# Altium integrated library Maxim Digital Potentiometers.IntLib: 1045 symbols (part 7 of 42)
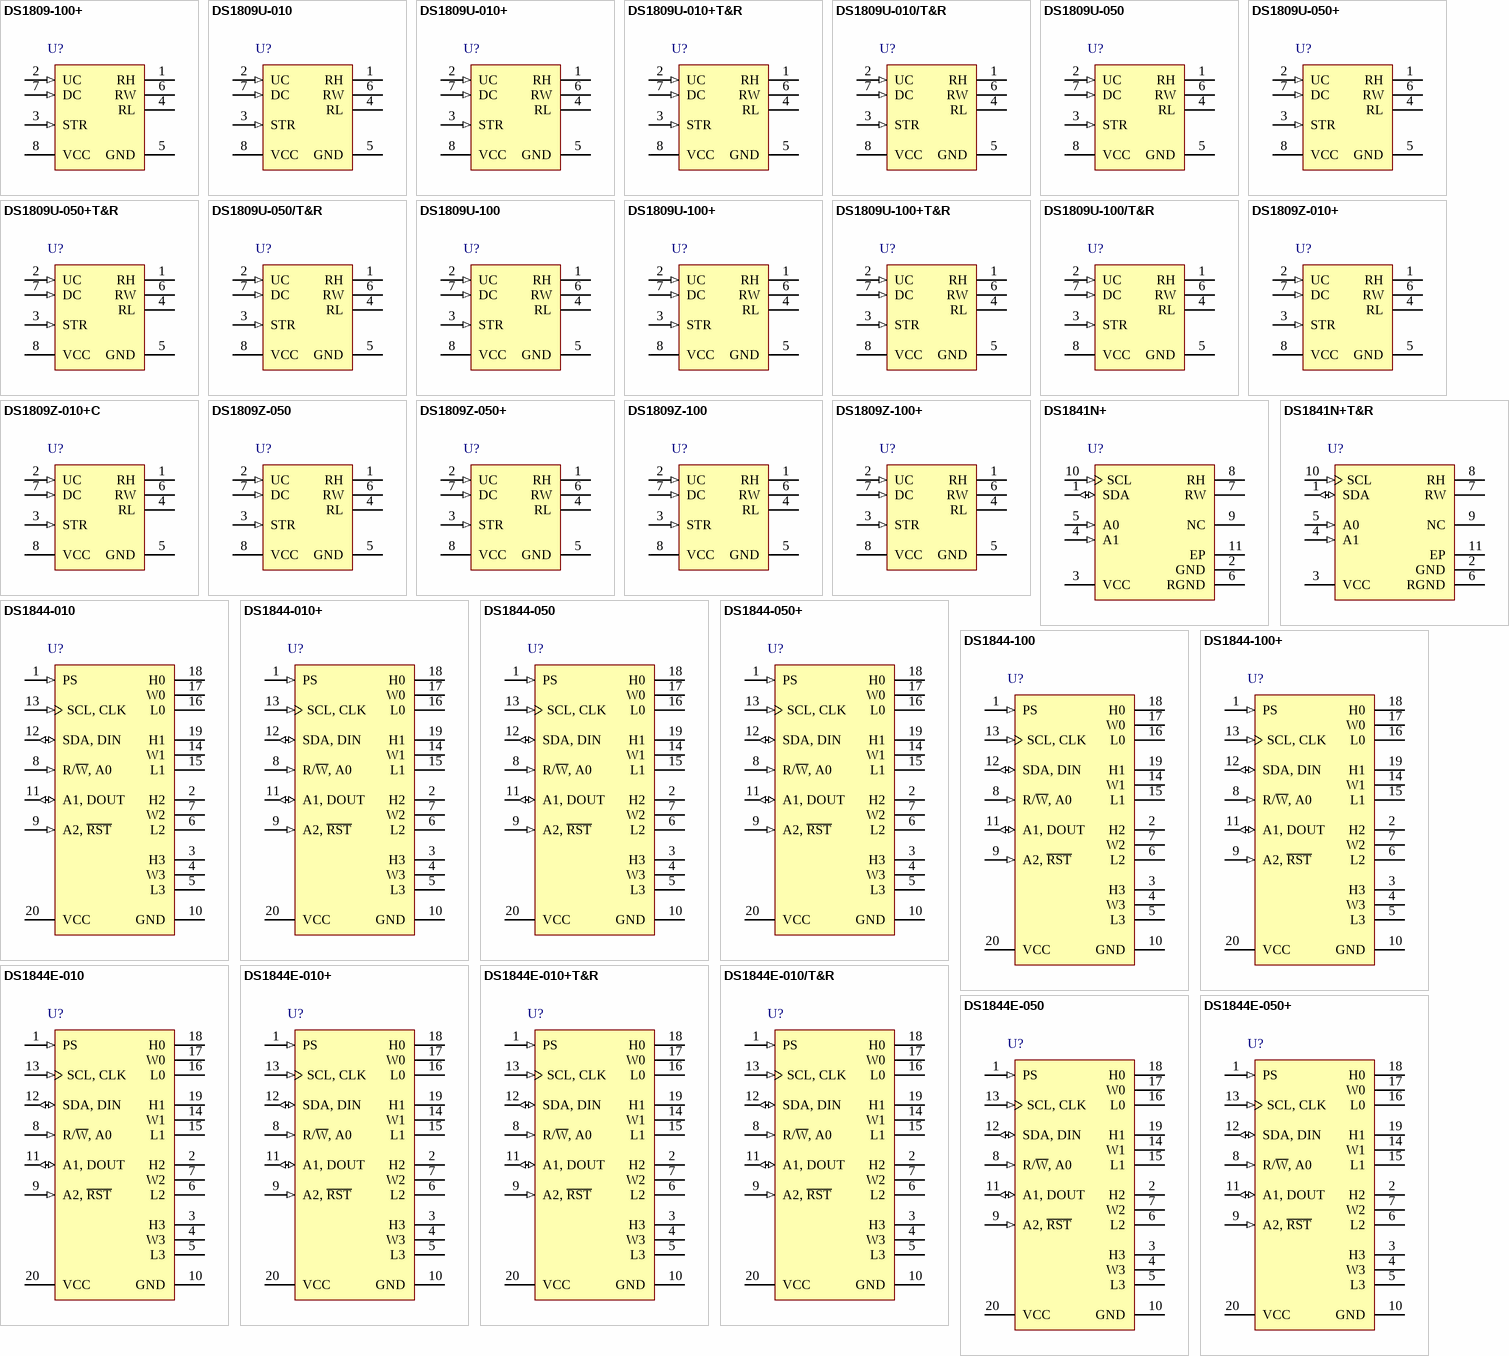
[diagram p35: symbols DS1809-100+ to DS1844E-050+]

## DS1809U-100
designator U?
Dallastat with Contact-Closure Control Interface, Non-Volatile, Linear Taper, 64 Steps, -40 to 85 degC, 8-pin uMAX (U8-1); PartNumber: DS1809U-100; DatasheetVersion: Rev. 1; PackageVersion: Rev. L, 08/2009; PackageReference: U8-1; PackageDescription: 8-Pin Micro-MAX, Thin Shrink Small-Outline (U8-1), Body 3 x 3 mm, Pitch 0.65mm; Supplier 1: Digi-Key; Supplier Part Number 1: DS1809U-100-ND; Supplier 2: Mouser; Supplier Part Number 2: N/A; Control Interface: Contact-Closure; Features: EEPROM Wiper Memory; Mounting Technology: Surface Mount; Code_JEDEC: MO-187; ComponentLink1Description: Manufacturer URL; ComponentLink1URL: http://www.maximintegrated.com/; ComponentLink2Description: Datasheet; ComponentLink2URL: http://datasheets.maximintegrated.com/en/ds/DS1809.pdf; ComponentLink3Description: Package Specification; ComponentLink3URL: http://pdfserv.maximintegrated.com/package_dwgs/21-0036.PDF
footprint MAXM-U8-1_N (SOP, 8-Leads, Body 3x3mm, Pitch 0.65mm, IPC Medium Density)
footprint MAXM-U8-1_L (SOP, 8-Leads, Body 3x3mm, Pitch 0.65mm, IPC High Density)
footprint MAXM-U8-1_M (SOP, 8-Leads, Body 3x3mm, Pitch 0.65mm, IPC Low Density)
pins: 1 RH "High End of Resistor", 2 UC (in) "Up Control Input", 3 STR (in) "Storage Enable Input", 4 RL "Low End of Resistor", 5 GND (power) "Ground", 6 RW "Wiper Terminal", 7 DC (in) "Down Control Input", 8 VCC (power) "Supply Voltage"

## DS1809U-100+
designator U?
Dallastat with Contact-Closure Control Interface, Non-Volatile, Linear Taper, 64 Steps, -40 to 85 degC, 8-pin uMAX (U8+1), Pb-Free; PartNumber: DS1809U-100+; DatasheetVersion: Rev. 1; PackageVersion: Rev. L, 08/2009; PackageReference: U8+1; PackageDescription: 8-Pin Micro-MAX, Thin Shrink Small-Outline (U8+1), Body 3 x 3 mm, Pitch 0.65 mm; Supplier 1: Digi-Key; Supplier Part Number 1: DS1809U-100+-ND; Supplier 2: Mouser; Supplier Part Number 2: 700-DS1809U-100; Control Interface: Contact-Closure; Features: EEPROM Wiper Memory; Mounting Technology: Surface Mount; Code_JEDEC: MO-187; ComponentLink1Description: Manufacturer URL; ComponentLink1URL: http://www.maximintegrated.com/; ComponentLink2Description: Datasheet; ComponentLink2URL: http://datasheets.maximintegrated.com/en/ds/DS1809.pdf; ComponentLink3Description: Package Specification; ComponentLink3URL: http://pdfserv.maximintegrated.com/package_dwgs/21-0036.PDF
footprint MAXM-U8+1_N (SOP, 8-Leads, Body 3x3mm, Pitch 0.65mm, IPC Medium Density)
footprint MAXM-U8+1_L (SOP, 8-Leads, Body 3x3mm, Pitch 0.65mm, IPC High Density)
footprint MAXM-U8+1_M (SOP, 8-Leads, Body 3x3mm, Pitch 0.65mm, IPC Low Density)
pins: 1 RH "High End of Resistor", 2 UC (in) "Up Control Input", 3 STR (in) "Storage Enable Input", 4 RL "Low End of Resistor", 5 GND (power) "Ground", 6 RW "Wiper Terminal", 7 DC (in) "Down Control Input", 8 VCC (power) "Supply Voltage"

## DS1809U-100+T&R
designator U?
Dallastat with Contact-Closure Control Interface, Non-Volatile, Linear Taper, 64 Steps, -40 to 85 degC, 8-pin uMAX (U8+1), Pb-Free, Tape and Reel; PartNumber: DS1809U-100+T&R; DatasheetVersion: Rev. 1; PackageVersion: Rev. L, 08/2009; PackageReference: U8+1; PackageDescription: 8-Pin Micro-MAX, Thin Shrink Small-Outline (U8+1), Body 3 x 3 mm, Pitch 0.65 mm; Supplier 1: Digi-Key; Supplier Part Number 1: DS1809U-100+T&R-ND; Supplier 2: Mouser; Supplier Part Number 2: 700-DS1809U-100T&R; Control Interface: Contact-Closure; Features: EEPROM Wiper Memory; Mounting Technology: Surface Mount; Code_JEDEC: MO-187; ComponentLink1Description: Manufacturer URL; ComponentLink1URL: http://www.maximintegrated.com/; ComponentLink2Description: Datasheet; ComponentLink2URL: http://datasheets.maximintegrated.com/en/ds/DS1809.pdf; ComponentLink3Description: Package Specification; ComponentLink3URL: http://pdfserv.maximintegrated.com/package_dwgs/21-0036.PDF
footprint MAXM-U8+1_N (SOP, 8-Leads, Body 3x3mm, Pitch 0.65mm, IPC Medium Density)
footprint MAXM-U8+1_L (SOP, 8-Leads, Body 3x3mm, Pitch 0.65mm, IPC High Density)
footprint MAXM-U8+1_M (SOP, 8-Leads, Body 3x3mm, Pitch 0.65mm, IPC Low Density)
pins: 1 RH "High End of Resistor", 2 UC (in) "Up Control Input", 3 STR (in) "Storage Enable Input", 4 RL "Low End of Resistor", 5 GND (power) "Ground", 6 RW "Wiper Terminal", 7 DC (in) "Down Control Input", 8 VCC (power) "Supply Voltage"

## DS1809U-100/T&R
designator U?
Dallastat with Contact-Closure Control Interface, Non-Volatile, Linear Taper, 64 Steps, -40 to 85 degC, 8-pin uMAX (U8-1), Tape and Reel; PartNumber: DS1809U-100/T&R; DatasheetVersion: Rev. 1; PackageVersion: Rev. L, 08/2009; PackageReference: U8-1; PackageDescription: 8-Pin Micro-MAX, Thin Shrink Small-Outline (U8-1), Body 3 x 3 mm, Pitch 0.65mm; Supplier 1: Digi-Key; Supplier Part Number 1: DS1809U-100/T&R-ND; Supplier 2: Mouser; Supplier Part Number 2: N/A; Control Interface: Contact-Closure; Features: EEPROM Wiper Memory; Mounting Technology: Surface Mount; Code_JEDEC: MO-187; ComponentLink1Description: Manufacturer URL; ComponentLink1URL: http://www.maximintegrated.com/; ComponentLink2Description: Datasheet; ComponentLink2URL: http://datasheets.maximintegrated.com/en/ds/DS1809.pdf; ComponentLink3Description: Package Specification; ComponentLink3URL: http://pdfserv.maximintegrated.com/package_dwgs/21-0036.PDF
footprint MAXM-U8-1_N (SOP, 8-Leads, Body 3x3mm, Pitch 0.65mm, IPC Medium Density)
footprint MAXM-U8-1_L (SOP, 8-Leads, Body 3x3mm, Pitch 0.65mm, IPC High Density)
footprint MAXM-U8-1_M (SOP, 8-Leads, Body 3x3mm, Pitch 0.65mm, IPC Low Density)
pins: 1 RH "High End of Resistor", 2 UC (in) "Up Control Input", 3 STR (in) "Storage Enable Input", 4 RL "Low End of Resistor", 5 GND (power) "Ground", 6 RW "Wiper Terminal", 7 DC (in) "Down Control Input", 8 VCC (power) "Supply Voltage"

## DS1809Z-010+
designator U?
Dallastat with Contact-Closure Control Interface, Non-Volatile, Linear Taper, 64 Steps, -40 to 85 degC, 8-pin SOIC (S8+5), Pb-Free; PartNumber: DS1809Z-010+; DatasheetVersion: Rev. 1; PackageVersion: Rev. D, 10/2012; PackageReference: S8+5; PackageDescription: 8-Pin Small-Outline IC, Narrow (0.15in) (S8+5), Body 4.90 x 3.90 mm, Pitch 1.27 mm; Supplier 1: Digi-Key; Supplier Part Number 1: DS1809Z-010+-ND; Supplier 2: Mouser; Supplier Part Number 2: 700-DS1809Z-010; Control Interface: Contact-Closure; Features: EEPROM Wiper Memory; Mounting Technology: Surface Mount; Code_JEDEC: MS012; ComponentLink1Description: Manufacturer URL; ComponentLink1URL: http://www.maximintegrated.com/; ComponentLink2Description: Datasheet; ComponentLink2URL: http://datasheets.maximintegrated.com/en/ds/DS1809.pdf; ComponentLink3Description: Package Specification; ComponentLink3URL: http://pdfserv.maximintegrated.com/package_dwgs/21-0041.PDF
footprint MAXM-S8+5_N (SOIC, 8-Leads, Body 4.90x3.90mm, Pitch 1.27mm, IPC Medium Density)
footprint MAXM-S8+5_L (SOIC, 8-Leads, Body 4.90x3.90mm, Pitch 1.27mm, IPC High Density)
footprint MAXM-S8+5_M (SOIC, 8-Leads, Body 4.90x3.90mm, Pitch 1.27mm, IPC Low Density)
pins: 1 RH "High End of Resistor", 2 UC (in) "Up Control Input", 3 STR (in) "Storage Enable Input", 4 RL "Low End of Resistor", 5 GND (power) "Ground", 6 RW "Wiper Terminal", 7 DC (in) "Down Control Input", 8 VCC (power) "Supply Voltage"

## DS1809Z-010+C
designator U?
Dallastat with Contact-Closure Control Interface, Non-Volatile, Linear Taper, 64 Steps, -40 to 85 degC, 8-pin SOIC (S8+5), Pb-Free; PartNumber: DS1809Z-010+C; DatasheetVersion: Rev. 1; PackageVersion: Rev. D, 10/2012; PackageReference: S8+5; PackageDescription: 8-Pin Small-Outline IC, Narrow (0.15in) (S8+5), Body 4.90 x 3.90 mm, Pitch 1.27 mm; Supplier 1: Digi-Key; Supplier Part Number 1: DS1809Z-010+C-ND; Supplier 2: Mouser; Supplier Part Number 2: 700-DS1809Z-010C; Control Interface: Contact-Closure; Features: EEPROM Wiper Memory; Mounting Technology: Surface Mount; Code_JEDEC: MS012; ComponentLink1Description: Manufacturer URL; ComponentLink1URL: http://www.maximintegrated.com/; ComponentLink2Description: Datasheet; ComponentLink2URL: http://datasheets.maximintegrated.com/en/ds/DS1809.pdf; ComponentLink3Description: Package Specification; ComponentLink3URL: http://pdfserv.maximintegrated.com/package_dwgs/21-0041.PDF
footprint MAXM-S8+5_N (SOIC, 8-Leads, Body 4.90x3.90mm, Pitch 1.27mm, IPC Medium Density)
footprint MAXM-S8+5_L (SOIC, 8-Leads, Body 4.90x3.90mm, Pitch 1.27mm, IPC High Density)
footprint MAXM-S8+5_M (SOIC, 8-Leads, Body 4.90x3.90mm, Pitch 1.27mm, IPC Low Density)
pins: 1 RH "High End of Resistor", 2 UC (in) "Up Control Input", 3 STR (in) "Storage Enable Input", 4 RL "Low End of Resistor", 5 GND (power) "Ground", 6 RW "Wiper Terminal", 7 DC (in) "Down Control Input", 8 VCC (power) "Supply Voltage"

## DS1809Z-050
designator U?
Dallastat with Contact-Closure Control Interface, Non-Volatile, Linear Taper, 64 Steps, -40 to 85 degC, 8-pin SOIC (S8-2); PartNumber: DS1809Z-050; DatasheetVersion: Rev. 1; PackageVersion: Rev. D, 10/2012; PackageReference: S8-2; PackageDescription: 8-Pin Small-Outline IC, Narrow (0.15in) (S8-2), Body 4.90 x 3.90 mm, Pitch 1.27 mm; Supplier 1: Digi-Key; Supplier Part Number 1: DS1809Z-050-ND; Supplier 2: Mouser; Supplier Part Number 2: N/A; Control Interface: Contact-Closure; Features: EEPROM Wiper Memory; Mounting Technology: Surface Mount; Code_JEDEC: MS012; ComponentLink1Description: Manufacturer URL; ComponentLink1URL: http://www.maximintegrated.com/; ComponentLink2Description: Datasheet; ComponentLink2URL: http://datasheets.maximintegrated.com/en/ds/DS1809.pdf; ComponentLink3Description: Package Specification; ComponentLink3URL: http://pdfserv.maximintegrated.com/package_dwgs/21-0041.PDF
footprint MAXM-S8-2_N (SOIC, 8-Leads, Body 4.90x3.90mm, Pitch 1.27mm, IPC Medium Density)
footprint MAXM-S8-2_L (SOIC, 8-Leads, Body 4.90x3.90mm, Pitch 1.27mm, IPC High Density)
footprint MAXM-S8-2_M (SOIC, 8-Leads, Body 4.90x3.90mm, Pitch 1.27mm, IPC Low Density)
pins: 1 RH "High End of Resistor", 2 UC (in) "Up Control Input", 3 STR (in) "Storage Enable Input", 4 RL "Low End of Resistor", 5 GND (power) "Ground", 6 RW "Wiper Terminal", 7 DC (in) "Down Control Input", 8 VCC (power) "Supply Voltage"

## DS1809Z-050+
designator U?
Dallastat with Contact-Closure Control Interface, Non-Volatile, Linear Taper, 64 Steps, -40 to 85 degC, 8-pin SOIC (S8+5), Pb-Free; PartNumber: DS1809Z-050+; DatasheetVersion: Rev. 1; PackageVersion: Rev. D, 10/2012; PackageReference: S8+5; PackageDescription: 8-Pin Small-Outline IC, Narrow (0.15in) (S8+5), Body 4.90 x 3.90 mm, Pitch 1.27 mm; Supplier 1: Digi-Key; Supplier Part Number 1: DS1809Z-050+-ND; Supplier 2: Mouser; Supplier Part Number 2: 700-DS1809Z-050; Control Interface: Contact-Closure; Features: EEPROM Wiper Memory; Mounting Technology: Surface Mount; Code_JEDEC: MS012; ComponentLink1Description: Manufacturer URL; ComponentLink1URL: http://www.maximintegrated.com/; ComponentLink2Description: Datasheet; ComponentLink2URL: http://datasheets.maximintegrated.com/en/ds/DS1809.pdf; ComponentLink3Description: Package Specification; ComponentLink3URL: http://pdfserv.maximintegrated.com/package_dwgs/21-0041.PDF
footprint MAXM-S8+5_N (SOIC, 8-Leads, Body 4.90x3.90mm, Pitch 1.27mm, IPC Medium Density)
footprint MAXM-S8+5_L (SOIC, 8-Leads, Body 4.90x3.90mm, Pitch 1.27mm, IPC High Density)
footprint MAXM-S8+5_M (SOIC, 8-Leads, Body 4.90x3.90mm, Pitch 1.27mm, IPC Low Density)
pins: 1 RH "High End of Resistor", 2 UC (in) "Up Control Input", 3 STR (in) "Storage Enable Input", 4 RL "Low End of Resistor", 5 GND (power) "Ground", 6 RW "Wiper Terminal", 7 DC (in) "Down Control Input", 8 VCC (power) "Supply Voltage"

## DS1809Z-100
designator U?
Dallastat with Contact-Closure Control Interface, Non-Volatile, Linear Taper, 64 Steps, -40 to 85 degC, 8-pin SOIC (S8-2); PartNumber: DS1809Z-100; DatasheetVersion: Rev. 1; PackageVersion: Rev. D, 10/2012; PackageReference: S8-2; PackageDescription: 8-Pin Small-Outline IC, Narrow (0.15in) (S8-2), Body 4.90 x 3.90 mm, Pitch 1.27 mm; Supplier 1: Digi-Key; Supplier Part Number 1: DS1809Z-100-ND; Supplier 2: Mouser; Supplier Part Number 2: N/A; Control Interface: Contact-Closure; Features: EEPROM Wiper Memory; Mounting Technology: Surface Mount; Code_JEDEC: MS012; ComponentLink1Description: Manufacturer URL; ComponentLink1URL: http://www.maximintegrated.com/; ComponentLink2Description: Datasheet; ComponentLink2URL: http://datasheets.maximintegrated.com/en/ds/DS1809.pdf; ComponentLink3Description: Package Specification; ComponentLink3URL: http://pdfserv.maximintegrated.com/package_dwgs/21-0041.PDF
footprint MAXM-S8-2_N (SOIC, 8-Leads, Body 4.90x3.90mm, Pitch 1.27mm, IPC Medium Density)
footprint MAXM-S8-2_L (SOIC, 8-Leads, Body 4.90x3.90mm, Pitch 1.27mm, IPC High Density)
footprint MAXM-S8-2_M (SOIC, 8-Leads, Body 4.90x3.90mm, Pitch 1.27mm, IPC Low Density)
pins: 1 RH "High End of Resistor", 2 UC (in) "Up Control Input", 3 STR (in) "Storage Enable Input", 4 RL "Low End of Resistor", 5 GND (power) "Ground", 6 RW "Wiper Terminal", 7 DC (in) "Down Control Input", 8 VCC (power) "Supply Voltage"

## DS1809Z-100+
designator U?
Dallastat with Contact-Closure Control Interface, Non-Volatile, Linear Taper, 64 Steps, -40 to 85 degC, 8-pin SOIC (S8+5), Pb-Free; PartNumber: DS1809Z-100+; DatasheetVersion: Rev. 1; PackageVersion: Rev. D, 10/2012; PackageReference: S8+5; PackageDescription: 8-Pin Small-Outline IC, Narrow (0.15in) (S8+5), Body 4.90 x 3.90 mm, Pitch 1.27 mm; Supplier 1: Digi-Key; Supplier Part Number 1: DS1809Z-100+-ND; Supplier 2: Mouser; Supplier Part Number 2: 700-DS1809Z-100; Control Interface: Contact-Closure; Features: EEPROM Wiper Memory; Mounting Technology: Surface Mount; Code_JEDEC: MS012; ComponentLink1Description: Manufacturer URL; ComponentLink1URL: http://www.maximintegrated.com/; ComponentLink2Description: Datasheet; ComponentLink2URL: http://datasheets.maximintegrated.com/en/ds/DS1809.pdf; ComponentLink3Description: Package Specification; ComponentLink3URL: http://pdfserv.maximintegrated.com/package_dwgs/21-0041.PDF
footprint MAXM-S8+5_N (SOIC, 8-Leads, Body 4.90x3.90mm, Pitch 1.27mm, IPC Medium Density)
footprint MAXM-S8+5_L (SOIC, 8-Leads, Body 4.90x3.90mm, Pitch 1.27mm, IPC High Density)
footprint MAXM-S8+5_M (SOIC, 8-Leads, Body 4.90x3.90mm, Pitch 1.27mm, IPC Low Density)
pins: 1 RH "High End of Resistor", 2 UC (in) "Up Control Input", 3 STR (in) "Storage Enable Input", 4 RL "Low End of Resistor", 5 GND (power) "Ground", 6 RW "Wiper Terminal", 7 DC (in) "Down Control Input", 8 VCC (power) "Supply Voltage"

## DS1841N+
designator U?
Temperature-Controlled, Logarithmic Resistor with I2C Control Interface, Non-Volatile, Log Taper, 128 Steps, -40 to 85 degC, 10-pin TDFN-EP (T1033+1), Pb-Free; PartNumber: DS1841N+; DatasheetVersion: Rev. 2; PackageVersion: Rev. J, 08/2009; PackageReference: T1033+1; PackageDescription: 10-Pin Plastic Very Very Thin Dual Flatpack No Leads, Exposed Pad (T1033+1), Body 3 x 3 mm, Pitch 0.5 mm; Supplier 1: Digi-Key; Supplier Part Number 1: DS1841N+-ND; Supplier 2: Farnell; Supplier Part Number 2: 1775343; Supplier 3: Newark; Supplier Part Number 3: 69M1844; Supplier 4: Mouser; Supplier Part Number 4: 700-DS1841N; Applications: Audio Control, Fiber Communications ,Fibre Optic Modules; Control Interface: I2C; Features: 72 Byte Lookup Table, On-Chip Temperature Sensor and ADC; Mounting Technology: Surface Mount; Code_JEDEC: MO229; ComponentLink1Description: Manufacturer URL; ComponentLink1URL: http://www.maximintegrated.com/; ComponentLink2Description: Datasheet; ComponentLink2URL: http://datasheets.maximintegrated.com/en/ds/DS1841.pdf; ComponentLink3Description: Package Specification; ComponentLink3URL: http://pdfserv.maximintegrated.com/package_dwgs/21-0137.PDF
footprint MAXM-T1033+1_V (SON, 10-Leads, Body 3x3mm, Pitch 0.5mm, Thermal Pad 2.35x1.58mm)
pins: 1 SDA (io) "I2C Serial Data. Input/output for I2C data.", 2 GND (power) "Ground", 3 VCC (power) "Power Supply", 4 A1 (in) "Address Select Inputs. Determines I2C slave address. Device address is 01010A1A0X (see the Slave Address Byte and Address Pins sections for more details).", 5 A0 (in) "Address Select Inputs. Determines I2C slave address. Device address is 01010A1A0X (see the Slave Address Byte and Address Pins sections for more details).", 6 RGND (power) "Low Terminal of Resistor. Must be connected to GND.", 7 RW "Wiper Terminal", 8 RH "Terminal with Fixed Resistor Added in Series with Digital Resistor", 9 NC "No Connection", 10 SCL (in) "I2C Serial Clock. Input for I2C clock.", 11 EP (power) "Exposed Paddle. Must be connected to ground."

## DS1841N+T&R
designator U?
Temperature-Controlled, NV, Logarithmic Resistor with I2C Control Interface, Non-Volatile, Log Taper, 128 Steps, -40 to 85 degC, 10-pin TDFN-EP (T1033+1), Pb-Free, Tape and Reel; PartNumber: DS1841N+T&R; DatasheetVersion: Rev. 2; PackageVersion: Rev. J, 08/2009; PackageReference: T1033+1; PackageDescription: 10-Pin Plastic Very Very Thin Dual Flatpack No Leads, Exposed Pad (T1033+1), Body 3 x 3 mm, Pitch 0.5 mm; Supplier 1: Digi-Key; Supplier Part Number 1: DS1841N+T&R-ND; Supplier 2: Mouser; Supplier Part Number 2: 700-DS1841NT&R; Applications: Audio Control, Fiber Communications ,Fibre Optic Modules; Control Interface: I2C; Features: 72 Byte Lookup Table, On-Chip Temperature Sensor and ADC; Mounting Technology: Surface Mount; Code_JEDEC: MO229; ComponentLink1Description: Manufacturer URL; ComponentLink1URL: http://www.maximintegrated.com/; ComponentLink2Description: Datasheet; ComponentLink2URL: http://datasheets.maximintegrated.com/en/ds/DS1841.pdf; ComponentLink3Description: Package Specification; ComponentLink3URL: http://pdfserv.maximintegrated.com/package_dwgs/21-0137.PDF
footprint MAXM-T1033+1_V (SON, 10-Leads, Body 3x3mm, Pitch 0.5mm, Thermal Pad 2.35x1.58mm)
pins: 1 SDA (io) "I2C Serial Data. Input/output for I2C data.", 2 GND (power) "Ground", 3 VCC (power) "Power Supply", 4 A1 (in) "Address Select Inputs. Determines I2C slave address. Device address is 01010A1A0X (see the Slave Address Byte and Address Pins sections for more details).", 5 A0 (in) "Address Select Inputs. Determines I2C slave address. Device address is 01010A1A0X (see the Slave Address Byte and Address Pins sections for more details).", 6 RGND (power) "Low Terminal of Resistor. Must be connected to GND.", 7 RW "Wiper Terminal", 8 RH "Terminal with Fixed Resistor Added in Series with Digital Resistor", 9 NC "No Connection", 10 SCL (in) "I2C Serial Clock. Input for I2C clock.", 11 EP (power) "Exposed Paddle. Must be connected to ground."

## DS1844-010
designator U?
Quad Digital Potentiometer with 2-Wire or 5-Wire Serial Control Interface, Volatile, Linear Taper, 64 Steps, -40 to 85 degC, 20-pin PDIP (P20-3); PartNumber: DS1844-010; DatasheetVersion: Rev. 2; PackageVersion: Rev. E, 04/2011; PackageReference: P20-3; PackageDescription: 20-Pin Plastic Dual-In-Line, Narrow (0.3in) (P20-3), Body 26.16 x 6.985 mm, Pitch 2.54 mm; Supplier 1: Digi-Key; Supplier Part Number 1: DS1844-010-ND; Supplier 2: Mouser; Supplier Part Number 2: N/A; Control Interface: 2-Wire or 5-Wire Serial; Mounting Technology: Through Hole; Code_JEDEC: MS001-XX; ComponentLink1Description: Manufacturer URL; ComponentLink1URL: http://www.maximintegrated.com/; ComponentLink2Description: Datasheet; ComponentLink2URL: http://datasheets.maximintegrated.com/en/ds/DS1844.pdf; ComponentLink3Description: Package Specification; ComponentLink3URL: http://pdfserv.maximintegrated.com/package_dwgs/21-0043.PDF
footprint MAXM-P20-3 (DIP, 20-Leads, Body 26.16x6.985mm, Pitch 2.54mm)
pins: 1 PS (in) "Port Select", 2 H2 "High-end Terminal of Pot", 3 H3 "High-end Terminal of Pot", 4 W3 "Wiper Terminal of Pot", 5 L3 "Low-end Terminal of Pot", 6 L2 "Low-end Terminal of Pot", 7 W2 "Wiper Terminal of Pot", 8 R/~{W}, A0 (in), 9 A2, ~{RST} (in), 10 GND (power) "Ground", 11 A1, DOUT (io), 12 SDA, DIN (io), 13 SCL, CLK (in), 14 W1 "Wiper Terminal of Pot", 15 L1 "Low-end Terminal of Pot", 16 L0 "Low-end Terminal of Pot", 17 W0 "Wiper Terminal of Pot", 18 H0 "High-end Terminal of Pot", 19 H1 "High-end Terminal of Pot", 20 VCC (power) "2.7V to 5.5V"

## DS1844-010+
designator U?
Quad Digital Potentiometer with 2-Wire or 5-Wire Serial Control Interface, Volatile, Linear Taper, 64 Steps, -40 to 85 degC, 20-pin PDIP (P20+3), Pb-Free; PartNumber: DS1844-010+; DatasheetVersion: Rev. 2; PackageVersion: Rev. E, 04/2011; PackageReference: P20+3; PackageDescription: 20-Pin Plastic Dual-In-Line, Narrow (0.3in) (P20+3), Body 26.16 x 6.985 mm, Pitch 2.54 mm; Supplier 1: Digi-Key; Supplier Part Number 1: DS1844-010+-ND; Supplier 2: Farnell; Supplier Part Number 2: 1306320; Supplier 3: Mouser; Supplier Part Number 3: 700-DS1844-010; Control Interface: 2-Wire or 5-Wire Serial; Mounting Technology: Through Hole; Code_JEDEC: MS001-XX; ComponentLink1Description: Manufacturer URL; ComponentLink1URL: http://www.maximintegrated.com/; ComponentLink2Description: Datasheet; ComponentLink2URL: http://datasheets.maximintegrated.com/en/ds/DS1844.pdf; ComponentLink3Description: Package Specification; ComponentLink3URL: http://pdfserv.maximintegrated.com/package_dwgs/21-0043.PDF
footprint MAXM-P20+3 (DIP, 20-Leads, Body 26.16x6.985mm, Pitch 2.54mm)
pins: 1 PS (in) "Port Select", 2 H2 "High-end Terminal of Pot", 3 H3 "High-end Terminal of Pot", 4 W3 "Wiper Terminal of Pot", 5 L3 "Low-end Terminal of Pot", 6 L2 "Low-end Terminal of Pot", 7 W2 "Wiper Terminal of Pot", 8 R/~{W}, A0 (in), 9 A2, ~{RST} (in), 10 GND (power) "Ground", 11 A1, DOUT (io), 12 SDA, DIN (io), 13 SCL, CLK (in), 14 W1 "Wiper Terminal of Pot", 15 L1 "Low-end Terminal of Pot", 16 L0 "Low-end Terminal of Pot", 17 W0 "Wiper Terminal of Pot", 18 H0 "High-end Terminal of Pot", 19 H1 "High-end Terminal of Pot", 20 VCC (power) "2.7V to 5.5V"

## DS1844-050
designator U?
Quad Digital Potentiometer with 2-Wire or 5-Wire Serial Control Interface, Volatile, Linear Taper, 64 Steps, -40 to 85 degC, 20-pin PDIP (P20-3); PartNumber: DS1844-050; DatasheetVersion: Rev. 2; PackageVersion: Rev. E, 04/2011; PackageReference: P20-3; PackageDescription: 20-Pin Plastic Dual-In-Line, Narrow (0.3in) (P20-3), Body 26.16 x 6.985 mm, Pitch 2.54 mm; Supplier 1: Digi-Key; Supplier Part Number 1: DS1844-050-ND; Supplier 2: Mouser; Supplier Part Number 2: N/A; Control Interface: 2-Wire or 5-Wire Serial; Mounting Technology: Through Hole; Code_JEDEC: MS001-XX; ComponentLink1Description: Manufacturer URL; ComponentLink1URL: http://www.maximintegrated.com/; ComponentLink2Description: Datasheet; ComponentLink2URL: http://datasheets.maximintegrated.com/en/ds/DS1844.pdf; ComponentLink3Description: Package Specification; ComponentLink3URL: http://pdfserv.maximintegrated.com/package_dwgs/21-0043.PDF
footprint MAXM-P20-3 (DIP, 20-Leads, Body 26.16x6.985mm, Pitch 2.54mm)
pins: 1 PS (in) "Port Select", 2 H2 "High-end Terminal of Pot", 3 H3 "High-end Terminal of Pot", 4 W3 "Wiper Terminal of Pot", 5 L3 "Low-end Terminal of Pot", 6 L2 "Low-end Terminal of Pot", 7 W2 "Wiper Terminal of Pot", 8 R/~{W}, A0 (in), 9 A2, ~{RST} (in), 10 GND (power) "Ground", 11 A1, DOUT (io), 12 SDA, DIN (io), 13 SCL, CLK (in), 14 W1 "Wiper Terminal of Pot", 15 L1 "Low-end Terminal of Pot", 16 L0 "Low-end Terminal of Pot", 17 W0 "Wiper Terminal of Pot", 18 H0 "High-end Terminal of Pot", 19 H1 "High-end Terminal of Pot", 20 VCC (power) "2.7V to 5.5V"

## DS1844-050+
designator U?
Quad Digital Potentiometer with 2-Wire or 5-Wire Serial Control Interface, Volatile, Linear Taper, 64 Steps, -40 to 85 degC, 20-pin PDIP (P20+3), Pb-Free; PartNumber: DS1844-050+; DatasheetVersion: Rev. 2; PackageVersion: Rev. E, 04/2011; PackageReference: P20+3; PackageDescription: 20-Pin Plastic Dual-In-Line, Narrow (0.3in) (P20+3), Body 26.16 x 6.985 mm, Pitch 2.54 mm; Supplier 1: Digi-Key; Supplier Part Number 1: DS1844-050+-ND; Supplier 2: Mouser; Supplier Part Number 2: 700-DS1844-050; Control Interface: 2-Wire or 5-Wire Serial; Mounting Technology: Through Hole; Code_JEDEC: MS001-XX; ComponentLink1Description: Manufacturer URL; ComponentLink1URL: http://www.maximintegrated.com/; ComponentLink2Description: Datasheet; ComponentLink2URL: http://datasheets.maximintegrated.com/en/ds/DS1844.pdf; ComponentLink3Description: Package Specification; ComponentLink3URL: http://pdfserv.maximintegrated.com/package_dwgs/21-0043.PDF
footprint MAXM-P20+3 (DIP, 20-Leads, Body 26.16x6.985mm, Pitch 2.54mm)
pins: 1 PS (in) "Port Select", 2 H2 "High-end Terminal of Pot", 3 H3 "High-end Terminal of Pot", 4 W3 "Wiper Terminal of Pot", 5 L3 "Low-end Terminal of Pot", 6 L2 "Low-end Terminal of Pot", 7 W2 "Wiper Terminal of Pot", 8 R/~{W}, A0 (in), 9 A2, ~{RST} (in), 10 GND (power) "Ground", 11 A1, DOUT (io), 12 SDA, DIN (io), 13 SCL, CLK (in), 14 W1 "Wiper Terminal of Pot", 15 L1 "Low-end Terminal of Pot", 16 L0 "Low-end Terminal of Pot", 17 W0 "Wiper Terminal of Pot", 18 H0 "High-end Terminal of Pot", 19 H1 "High-end Terminal of Pot", 20 VCC (power) "2.7V to 5.5V"

## DS1844-100
designator U?
Quad Digital Potentiometer with 2-Wire or 5-Wire Serial Control Interface, Volatile, Linear Taper, 64 Steps, -40 to 85 degC, 20-pin PDIP (P20-3); PartNumber: DS1844-100; DatasheetVersion: Rev. 2; PackageVersion: Rev. E, 04/2011; PackageReference: P20-3; PackageDescription: 20-Pin Plastic Dual-In-Line, Narrow (0.3in) (P20-3), Body 26.16 x 6.985 mm, Pitch 2.54 mm; Supplier 1: Digi-Key; Supplier Part Number 1: DS1844-100-ND; Supplier 2: Mouser; Supplier Part Number 2: N/A; Control Interface: 2-Wire or 5-Wire Serial; Mounting Technology: Through Hole; Code_JEDEC: MS001-XX; ComponentLink1Description: Manufacturer URL; ComponentLink1URL: http://www.maximintegrated.com/; ComponentLink2Description: Datasheet; ComponentLink2URL: http://datasheets.maximintegrated.com/en/ds/DS1844.pdf; ComponentLink3Description: Package Specification; ComponentLink3URL: http://pdfserv.maximintegrated.com/package_dwgs/21-0043.PDF
footprint MAXM-P20-3 (DIP, 20-Leads, Body 26.16x6.985mm, Pitch 2.54mm)
pins: 1 PS (in) "Port Select", 2 H2 "High-end Terminal of Pot", 3 H3 "High-end Terminal of Pot", 4 W3 "Wiper Terminal of Pot", 5 L3 "Low-end Terminal of Pot", 6 L2 "Low-end Terminal of Pot", 7 W2 "Wiper Terminal of Pot", 8 R/~{W}, A0 (in), 9 A2, ~{RST} (in), 10 GND (power) "Ground", 11 A1, DOUT (io), 12 SDA, DIN (io), 13 SCL, CLK (in), 14 W1 "Wiper Terminal of Pot", 15 L1 "Low-end Terminal of Pot", 16 L0 "Low-end Terminal of Pot", 17 W0 "Wiper Terminal of Pot", 18 H0 "High-end Terminal of Pot", 19 H1 "High-end Terminal of Pot", 20 VCC (power) "2.7V to 5.5V"

## DS1844-100+
designator U?
Quad Digital Potentiometer with 2-Wire or 5-Wire Serial Control Interface, Volatile, Linear Taper, 64 Steps, -40 to 85 degC, 20-pin PDIP (P20+3), Pb-Free; PartNumber: DS1844-100+; DatasheetVersion: Rev. 2; PackageVersion: Rev. E, 04/2011; PackageReference: P20+3; PackageDescription: 20-Pin Plastic Dual-In-Line, Narrow (0.3in) (P20+3), Body 26.16 x 6.985 mm, Pitch 2.54 mm; Supplier 1: Digi-Key; Supplier Part Number 1: DS1844-100+-ND; Supplier 2: Mouser; Supplier Part Number 2: 700-DS1844-100; Control Interface: 2-Wire or 5-Wire Serial; Mounting Technology: Through Hole; Code_JEDEC: MS001-XX; ComponentLink1Description: Manufacturer URL; ComponentLink1URL: http://www.maximintegrated.com/; ComponentLink2Description: Datasheet; ComponentLink2URL: http://datasheets.maximintegrated.com/en/ds/DS1844.pdf; ComponentLink3Description: Package Specification; ComponentLink3URL: http://pdfserv.maximintegrated.com/package_dwgs/21-0043.PDF
footprint MAXM-P20+3 (DIP, 20-Leads, Body 26.16x6.985mm, Pitch 2.54mm)
pins: 1 PS (in) "Port Select", 2 H2 "High-end Terminal of Pot", 3 H3 "High-end Terminal of Pot", 4 W3 "Wiper Terminal of Pot", 5 L3 "Low-end Terminal of Pot", 6 L2 "Low-end Terminal of Pot", 7 W2 "Wiper Terminal of Pot", 8 R/~{W}, A0 (in), 9 A2, ~{RST} (in), 10 GND (power) "Ground", 11 A1, DOUT (io), 12 SDA, DIN (io), 13 SCL, CLK (in), 14 W1 "Wiper Terminal of Pot", 15 L1 "Low-end Terminal of Pot", 16 L0 "Low-end Terminal of Pot", 17 W0 "Wiper Terminal of Pot", 18 H0 "High-end Terminal of Pot", 19 H1 "High-end Terminal of Pot", 20 VCC (power) "2.7V to 5.5V"

## DS1844E-010
designator U?
Quad Digital Potentiometer with 2-Wire or 5-Wire Serial Control Interface, Volatile, Linear Taper, 64 Steps, -40 to 85 degC, 20-pin TSSOP (U20-1); PartNumber: DS1844E-010; DatasheetVersion: Rev. 2; PackageVersion: Rev. L, 07/2010; PackageReference: U20-1; PackageDescription: 20-Pin Thin Shrink Small-Outline Package (U20-1), Body 6.5 x 4.4 mm, Pitch 0.65 mm; Supplier 1: Digi-Key; Supplier Part Number 1: DS1844E-010-ND; Supplier 2: Mouser; Supplier Part Number 2: N/A; Control Interface: 2-Wire or 5-Wire Serial; Mounting Technology: Surface Mount; Code_JEDEC: MO-153; ComponentLink1Description: Manufacturer URL; ComponentLink1URL: http://www.maximintegrated.com/; ComponentLink2Description: Datasheet; ComponentLink2URL: http://datasheets.maximintegrated.com/en/ds/DS1844.pdf; ComponentLink3Description: Package Specification; ComponentLink3URL: http://pdfserv.maximintegrated.com/package_dwgs/21-0066.PDF
footprint MAXM-U20-1_N (SOP, 20-Leads, Body 6.5x4.40mm, Pitch 0.65mm, IPC Medium Density)
footprint MAXM-U20-1_L (SOP, 20-Leads, Body 6.5x4.40mm, Pitch 0.65mm, IPC High Density)
footprint MAXM-U20-1_M (SOP, 20-Leads, Body 6.5x4.40mm, Pitch 0.65mm, IPC Low Density)
pins: 1 PS (in) "Port Select", 2 H2 "High-end Terminal of Pot", 3 H3 "High-end Terminal of Pot", 4 W3 "Wiper Terminal of Pot", 5 L3 "Low-end Terminal of Pot", 6 L2 "Low-end Terminal of Pot", 7 W2 "Wiper Terminal of Pot", 8 R/~{W}, A0 (in), 9 A2, ~{RST} (in), 10 GND (power) "Ground", 11 A1, DOUT (io), 12 SDA, DIN (io), 13 SCL, CLK (in), 14 W1 "Wiper Terminal of Pot", 15 L1 "Low-end Terminal of Pot", 16 L0 "Low-end Terminal of Pot", 17 W0 "Wiper Terminal of Pot", 18 H0 "High-end Terminal of Pot", 19 H1 "High-end Terminal of Pot", 20 VCC (power) "2.7V to 5.5V"

## DS1844E-010+
designator U?
Quad Digital Potentiometer with 2-Wire or 5-Wire Serial Control Interface, Volatile, Linear Taper, 64 Steps, -40 to 85 degC, 20-pin TSSOP (U20+1), Pb-Free; PartNumber: DS1844E-010+; DatasheetVersion: Rev. 2; PackageVersion: Rev. L, 07/2010; PackageReference: U20+1; PackageDescription: 20-Pin Thin Shrink Small-Outline Package (U20+1), Body 6.5 x4.4 mm, Pitch 0.65 mm; Supplier 1: Digi-Key; Supplier Part Number 1: DS1844E-010+-ND; Supplier 2: Mouser; Supplier Part Number 2: 700-DS1844E-010; Control Interface: 2-Wire or 5-Wire Serial; Mounting Technology: Surface Mount; Code_JEDEC: MO-153; ComponentLink1Description: Manufacturer URL; ComponentLink1URL: http://www.maximintegrated.com/; ComponentLink2Description: Datasheet; ComponentLink2URL: http://datasheets.maximintegrated.com/en/ds/DS1844.pdf; ComponentLink3Description: Package Specification; ComponentLink3URL: http://pdfserv.maximintegrated.com/package_dwgs/21-0066.PDF
footprint MAXM-U20+1_N (SOP, 20-Leads, Body 6.5x4.4mm, Pitch 0.65mm, IPC Medium Density)
footprint MAXM-U20+1_L (SOP, 20-Leads, Body 6.5x4.4mm, Pitch 0.65mm, IPC High Density)
footprint MAXM-U20+1_M (SOP, 20-Leads, Body 6.5x4.4mm, Pitch 0.65mm, IPC Low Density)
pins: 1 PS (in) "Port Select", 2 H2 "High-end Terminal of Pot", 3 H3 "High-end Terminal of Pot", 4 W3 "Wiper Terminal of Pot", 5 L3 "Low-end Terminal of Pot", 6 L2 "Low-end Terminal of Pot", 7 W2 "Wiper Terminal of Pot", 8 R/~{W}, A0 (in), 9 A2, ~{RST} (in), 10 GND (power) "Ground", 11 A1, DOUT (io), 12 SDA, DIN (io), 13 SCL, CLK (in), 14 W1 "Wiper Terminal of Pot", 15 L1 "Low-end Terminal of Pot", 16 L0 "Low-end Terminal of Pot", 17 W0 "Wiper Terminal of Pot", 18 H0 "High-end Terminal of Pot", 19 H1 "High-end Terminal of Pot", 20 VCC (power) "2.7V to 5.5V"

## DS1844E-010+T&R
designator U?
Quad Digital Potentiometer with 2-Wire or 5-Wire Serial Control Interface, Volatile, Linear Taper, 64 Steps, -40 to 85 degC, 20-pin TSSOP (U20+1), Pb-Free, Tape and Reel; PartNumber: DS1844E-010+T&R; DatasheetVersion: Rev. 2; PackageVersion: Rev. L, 07/2010; PackageReference: U20+1; PackageDescription: 20-Pin Thin Shrink Small-Outline Package (U20+1), Body 6.5 x4.4 mm, Pitch 0.65 mm; Supplier 1: Digi-Key; Supplier Part Number 1: DS1844E-010+T&R-ND; Supplier 2: Mouser; Supplier Part Number 2: 700-DS1844E-010T&R; Control Interface: 2-Wire or 5-Wire Serial; Mounting Technology: Surface Mount; Code_JEDEC: MO-153; ComponentLink1Description: Manufacturer URL; ComponentLink1URL: http://www.maximintegrated.com/; ComponentLink2Description: Datasheet; ComponentLink2URL: http://datasheets.maximintegrated.com/en/ds/DS1844.pdf; ComponentLink3Description: Package Specification; ComponentLink3URL: http://pdfserv.maximintegrated.com/package_dwgs/21-0066.PDF
footprint MAXM-U20+1_N (SOP, 20-Leads, Body 6.5x4.4mm, Pitch 0.65mm, IPC Medium Density)
footprint MAXM-U20+1_L (SOP, 20-Leads, Body 6.5x4.4mm, Pitch 0.65mm, IPC High Density)
footprint MAXM-U20+1_M (SOP, 20-Leads, Body 6.5x4.4mm, Pitch 0.65mm, IPC Low Density)
pins: 1 PS (in) "Port Select", 2 H2 "High-end Terminal of Pot", 3 H3 "High-end Terminal of Pot", 4 W3 "Wiper Terminal of Pot", 5 L3 "Low-end Terminal of Pot", 6 L2 "Low-end Terminal of Pot", 7 W2 "Wiper Terminal of Pot", 8 R/~{W}, A0 (in), 9 A2, ~{RST} (in), 10 GND (power) "Ground", 11 A1, DOUT (io), 12 SDA, DIN (io), 13 SCL, CLK (in), 14 W1 "Wiper Terminal of Pot", 15 L1 "Low-end Terminal of Pot", 16 L0 "Low-end Terminal of Pot", 17 W0 "Wiper Terminal of Pot", 18 H0 "High-end Terminal of Pot", 19 H1 "High-end Terminal of Pot", 20 VCC (power) "2.7V to 5.5V"

## DS1844E-010/T&R
designator U?
Quad Digital Potentiometer with 2-Wire or 5-Wire Serial Control Interface, Volatile, Linear Taper, 64 Steps, -40 to 85 degC, 20-pin TSSOP (U20-1), Tape and Reel; PartNumber: DS1844E-010/T&R; DatasheetVersion: Rev. 2; PackageVersion: Rev. L, 07/2010; PackageReference: U20-1; PackageDescription: 20-Pin Thin Shrink Small-Outline Package (U20-1), Body 6.5 x 4.4 mm, Pitch 0.65 mm; Supplier 1: Digi-Key; Supplier Part Number 1: DS1844E-010/T&R-ND; Supplier 2: Mouser; Supplier Part Number 2: N/A; Control Interface: 2-Wire or 5-Wire Serial; Mounting Technology: Surface Mount; Code_JEDEC: MO-153; ComponentLink1Description: Manufacturer URL; ComponentLink1URL: http://www.maximintegrated.com/; ComponentLink2Description: Datasheet; ComponentLink2URL: http://datasheets.maximintegrated.com/en/ds/DS1844.pdf; ComponentLink3Description: Package Specification; ComponentLink3URL: http://pdfserv.maximintegrated.com/package_dwgs/21-0066.PDF
footprint MAXM-U20-1_N (SOP, 20-Leads, Body 6.5x4.40mm, Pitch 0.65mm, IPC Medium Density)
footprint MAXM-U20-1_L (SOP, 20-Leads, Body 6.5x4.40mm, Pitch 0.65mm, IPC High Density)
footprint MAXM-U20-1_M (SOP, 20-Leads, Body 6.5x4.40mm, Pitch 0.65mm, IPC Low Density)
pins: 1 PS (in) "Port Select", 2 H2 "High-end Terminal of Pot", 3 H3 "High-end Terminal of Pot", 4 W3 "Wiper Terminal of Pot", 5 L3 "Low-end Terminal of Pot", 6 L2 "Low-end Terminal of Pot", 7 W2 "Wiper Terminal of Pot", 8 R/~{W}, A0 (in), 9 A2, ~{RST} (in), 10 GND (power) "Ground", 11 A1, DOUT (io), 12 SDA, DIN (io), 13 SCL, CLK (in), 14 W1 "Wiper Terminal of Pot", 15 L1 "Low-end Terminal of Pot", 16 L0 "Low-end Terminal of Pot", 17 W0 "Wiper Terminal of Pot", 18 H0 "High-end Terminal of Pot", 19 H1 "High-end Terminal of Pot", 20 VCC (power) "2.7V to 5.5V"

## DS1844E-050
designator U?
Quad Digital Potentiometer with 2-Wire or 5-Wire Serial Control Interface, Volatile, Linear Taper, 64 Steps, -40 to 85 degC, 20-pin TSSOP (U20-1); PartNumber: DS1844E-050; DatasheetVersion: Rev. 2; PackageVersion: Rev. L, 07/2010; PackageReference: U20-1; PackageDescription: 20-Pin Thin Shrink Small-Outline Package (U20-1), Body 6.5 x 4.4 mm, Pitch 0.65 mm; Supplier 1: Digi-Key; Supplier Part Number 1: DS1844E-050-ND; Supplier 2: Mouser; Supplier Part Number 2: N/A; Control Interface: 2-Wire or 5-Wire Serial; Mounting Technology: Surface Mount; Code_JEDEC: MO-153; ComponentLink1Description: Manufacturer URL; ComponentLink1URL: http://www.maximintegrated.com/; ComponentLink2Description: Datasheet; ComponentLink2URL: http://datasheets.maximintegrated.com/en/ds/DS1844.pdf; ComponentLink3Description: Package Specification; ComponentLink3URL: http://pdfserv.maximintegrated.com/package_dwgs/21-0066.PDF
footprint MAXM-U20-1_N (SOP, 20-Leads, Body 6.5x4.40mm, Pitch 0.65mm, IPC Medium Density)
footprint MAXM-U20-1_L (SOP, 20-Leads, Body 6.5x4.40mm, Pitch 0.65mm, IPC High Density)
footprint MAXM-U20-1_M (SOP, 20-Leads, Body 6.5x4.40mm, Pitch 0.65mm, IPC Low Density)
pins: 1 PS (in) "Port Select", 2 H2 "High-end Terminal of Pot", 3 H3 "High-end Terminal of Pot", 4 W3 "Wiper Terminal of Pot", 5 L3 "Low-end Terminal of Pot", 6 L2 "Low-end Terminal of Pot", 7 W2 "Wiper Terminal of Pot", 8 R/~{W}, A0 (in), 9 A2, ~{RST} (in), 10 GND (power) "Ground", 11 A1, DOUT (io), 12 SDA, DIN (io), 13 SCL, CLK (in), 14 W1 "Wiper Terminal of Pot", 15 L1 "Low-end Terminal of Pot", 16 L0 "Low-end Terminal of Pot", 17 W0 "Wiper Terminal of Pot", 18 H0 "High-end Terminal of Pot", 19 H1 "High-end Terminal of Pot", 20 VCC (power) "2.7V to 5.5V"

## DS1844E-050+
designator U?
Quad Digital Potentiometer with 2-Wire or 5-Wire Serial Control Interface, Volatile, Linear Taper, 64 Steps, -40 to 85 degC, 20-pin TSSOP (U20+1), Pb-Free; PartNumber: DS1844E-050+; DatasheetVersion: Rev. 2; PackageVersion: Rev. L, 07/2010; PackageReference: U20+1; PackageDescription: 20-Pin Thin Shrink Small-Outline Package (U20+1), Body 6.5 x4.4 mm, Pitch 0.65 mm; Supplier 1: Digi-Key; Supplier Part Number 1: DS1844E-050+-ND; Supplier 2: Mouser; Supplier Part Number 2: 700-DS1844E-050; Control Interface: 2-Wire or 5-Wire Serial; Mounting Technology: Surface Mount; Code_JEDEC: MO-153; ComponentLink1Description: Manufacturer URL; ComponentLink1URL: http://www.maximintegrated.com/; ComponentLink2Description: Datasheet; ComponentLink2URL: http://datasheets.maximintegrated.com/en/ds/DS1844.pdf; ComponentLink3Description: Package Specification; ComponentLink3URL: http://pdfserv.maximintegrated.com/package_dwgs/21-0066.PDF
footprint MAXM-U20+1_N (SOP, 20-Leads, Body 6.5x4.4mm, Pitch 0.65mm, IPC Medium Density)
footprint MAXM-U20+1_L (SOP, 20-Leads, Body 6.5x4.4mm, Pitch 0.65mm, IPC High Density)
footprint MAXM-U20+1_M (SOP, 20-Leads, Body 6.5x4.4mm, Pitch 0.65mm, IPC Low Density)
pins: 1 PS (in) "Port Select", 2 H2 "High-end Terminal of Pot", 3 H3 "High-end Terminal of Pot", 4 W3 "Wiper Terminal of Pot", 5 L3 "Low-end Terminal of Pot", 6 L2 "Low-end Terminal of Pot", 7 W2 "Wiper Terminal of Pot", 8 R/~{W}, A0 (in), 9 A2, ~{RST} (in), 10 GND (power) "Ground", 11 A1, DOUT (io), 12 SDA, DIN (io), 13 SCL, CLK (in), 14 W1 "Wiper Terminal of Pot", 15 L1 "Low-end Terminal of Pot", 16 L0 "Low-end Terminal of Pot", 17 W0 "Wiper Terminal of Pot", 18 H0 "High-end Terminal of Pot", 19 H1 "High-end Terminal of Pot", 20 VCC (power) "2.7V to 5.5V"

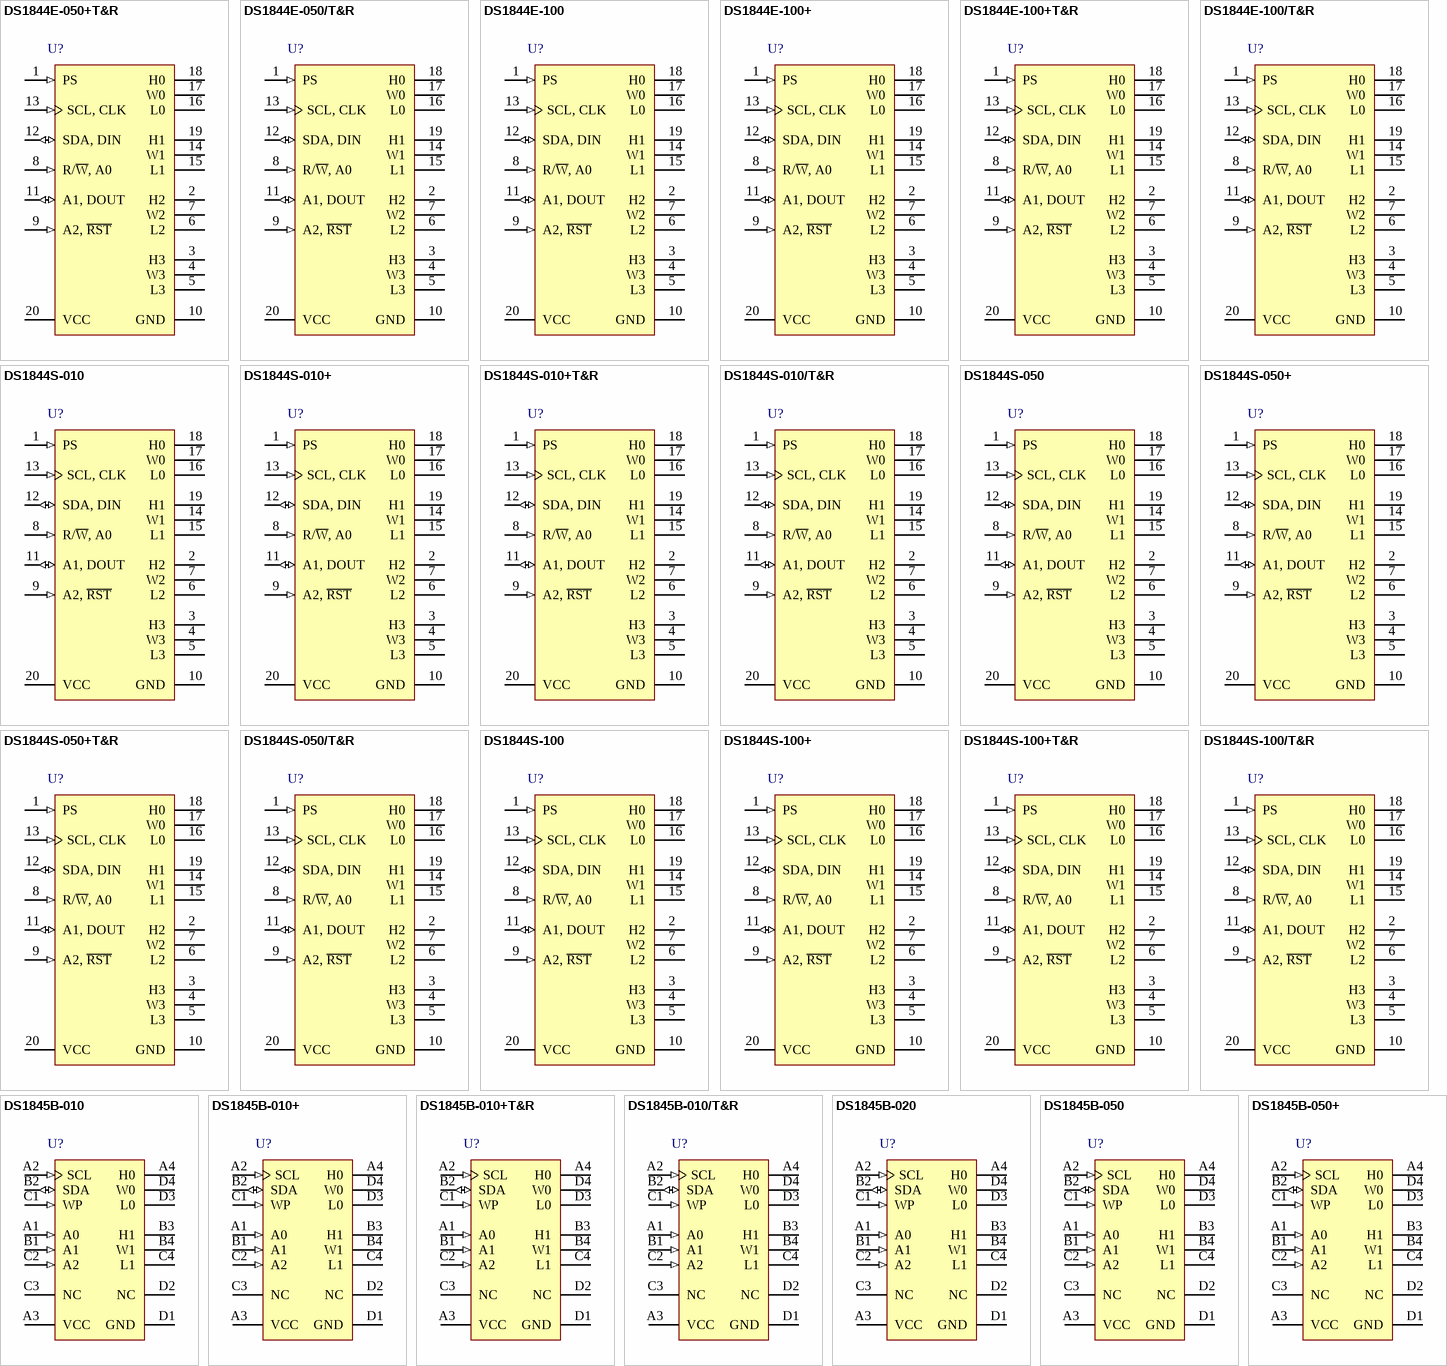
[diagram p6: symbols DS1844E-050+T&R to DS1845B-050+]

## DS1844E-050+T&R
designator U?
Quad Digital Potentiometer with 2-Wire or 5-Wire Serial Control Interface, Volatile, Linear Taper, 64 Steps, -40 to 85 degC, 20-pin TSSOP (U20+1), Pb-Free, Tape and Reel; PartNumber: DS1844E-050+T&R; DatasheetVersion: Rev. 2; PackageVersion: Rev. L, 07/2010; PackageReference: U20+1; PackageDescription: 20-Pin Thin Shrink Small-Outline Package (U20+1), Body 6.5 x4.4 mm, Pitch 0.65 mm; Supplier 1: Digi-Key; Supplier Part Number 1: DS1844E-050+T&R-ND; Supplier 2: Mouser; Supplier Part Number 2: 700-DS1844E-050T&R; Control Interface: 2-Wire or 5-Wire Serial; Mounting Technology: Surface Mount; Code_JEDEC: MO-153; ComponentLink1Description: Manufacturer URL; ComponentLink1URL: http://www.maximintegrated.com/; ComponentLink2Description: Datasheet; ComponentLink2URL: http://datasheets.maximintegrated.com/en/ds/DS1844.pdf; ComponentLink3Description: Package Specification; ComponentLink3URL: http://pdfserv.maximintegrated.com/package_dwgs/21-0066.PDF
footprint MAXM-U20+1_N (SOP, 20-Leads, Body 6.5x4.4mm, Pitch 0.65mm, IPC Medium Density)
footprint MAXM-U20+1_L (SOP, 20-Leads, Body 6.5x4.4mm, Pitch 0.65mm, IPC High Density)
footprint MAXM-U20+1_M (SOP, 20-Leads, Body 6.5x4.4mm, Pitch 0.65mm, IPC Low Density)
pins: 1 PS (in) "Port Select", 2 H2 "High-end Terminal of Pot", 3 H3 "High-end Terminal of Pot", 4 W3 "Wiper Terminal of Pot", 5 L3 "Low-end Terminal of Pot", 6 L2 "Low-end Terminal of Pot", 7 W2 "Wiper Terminal of Pot", 8 R/~{W}, A0 (in), 9 A2, ~{RST} (in), 10 GND (power) "Ground", 11 A1, DOUT (io), 12 SDA, DIN (io), 13 SCL, CLK (in), 14 W1 "Wiper Terminal of Pot", 15 L1 "Low-end Terminal of Pot", 16 L0 "Low-end Terminal of Pot", 17 W0 "Wiper Terminal of Pot", 18 H0 "High-end Terminal of Pot", 19 H1 "High-end Terminal of Pot", 20 VCC (power) "2.7V to 5.5V"

## DS1844E-050/T&R
designator U?
Quad Digital Potentiometer with 2-Wire or 5-Wire Serial Control Interface, Volatile, Linear Taper, 64 Steps, -40 to 85 degC, 20-pin TSSOP (U20-1), Tape and Reel; PartNumber: DS1844E-050/T&R; DatasheetVersion: Rev. 2; PackageVersion: Rev. L, 07/2010; PackageReference: U20-1; PackageDescription: 20-Pin Thin Shrink Small-Outline Package (U20-1), Body 6.5 x 4.4 mm, Pitch 0.65 mm; Supplier 1: Digi-Key; Supplier Part Number 1: DS1844E-050/T&R-ND; Supplier 2: Mouser; Supplier Part Number 2: N/A; Control Interface: 2-Wire or 5-Wire Serial; Mounting Technology: Surface Mount; Code_JEDEC: MO-153; ComponentLink1Description: Manufacturer URL; ComponentLink1URL: http://www.maximintegrated.com/; ComponentLink2Description: Datasheet; ComponentLink2URL: http://datasheets.maximintegrated.com/en/ds/DS1844.pdf; ComponentLink3Description: Package Specification; ComponentLink3URL: http://pdfserv.maximintegrated.com/package_dwgs/21-0066.PDF
footprint MAXM-U20-1_N (SOP, 20-Leads, Body 6.5x4.40mm, Pitch 0.65mm, IPC Medium Density)
footprint MAXM-U20-1_L (SOP, 20-Leads, Body 6.5x4.40mm, Pitch 0.65mm, IPC High Density)
footprint MAXM-U20-1_M (SOP, 20-Leads, Body 6.5x4.40mm, Pitch 0.65mm, IPC Low Density)
pins: 1 PS (in) "Port Select", 2 H2 "High-end Terminal of Pot", 3 H3 "High-end Terminal of Pot", 4 W3 "Wiper Terminal of Pot", 5 L3 "Low-end Terminal of Pot", 6 L2 "Low-end Terminal of Pot", 7 W2 "Wiper Terminal of Pot", 8 R/~{W}, A0 (in), 9 A2, ~{RST} (in), 10 GND (power) "Ground", 11 A1, DOUT (io), 12 SDA, DIN (io), 13 SCL, CLK (in), 14 W1 "Wiper Terminal of Pot", 15 L1 "Low-end Terminal of Pot", 16 L0 "Low-end Terminal of Pot", 17 W0 "Wiper Terminal of Pot", 18 H0 "High-end Terminal of Pot", 19 H1 "High-end Terminal of Pot", 20 VCC (power) "2.7V to 5.5V"

## DS1844E-100
designator U?
Quad Digital Potentiometer with 2-Wire or 5-Wire Serial Control Interface, Volatile, Linear Taper, 64 Steps, -40 to 85 degC, 20-pin TSSOP (U20-1); PartNumber: DS1844E-100; DatasheetVersion: Rev. 2; PackageVersion: Rev. L, 07/2010; PackageReference: U20-1; PackageDescription: 20-Pin Thin Shrink Small-Outline Package (U20-1), Body 6.5 x 4.4 mm, Pitch 0.65 mm; Supplier 1: Digi-Key; Supplier Part Number 1: DS1844E-100-ND; Supplier 2: Mouser; Supplier Part Number 2: N/A; Control Interface: 2-Wire or 5-Wire Serial; Mounting Technology: Surface Mount; Code_JEDEC: MO-153; ComponentLink1Description: Manufacturer URL; ComponentLink1URL: http://www.maximintegrated.com/; ComponentLink2Description: Datasheet; ComponentLink2URL: http://datasheets.maximintegrated.com/en/ds/DS1844.pdf; ComponentLink3Description: Package Specification; ComponentLink3URL: http://pdfserv.maximintegrated.com/package_dwgs/21-0066.PDF
footprint MAXM-U20-1_N (SOP, 20-Leads, Body 6.5x4.40mm, Pitch 0.65mm, IPC Medium Density)
footprint MAXM-U20-1_L (SOP, 20-Leads, Body 6.5x4.40mm, Pitch 0.65mm, IPC High Density)
footprint MAXM-U20-1_M (SOP, 20-Leads, Body 6.5x4.40mm, Pitch 0.65mm, IPC Low Density)
pins: 1 PS (in) "Port Select", 2 H2 "High-end Terminal of Pot", 3 H3 "High-end Terminal of Pot", 4 W3 "Wiper Terminal of Pot", 5 L3 "Low-end Terminal of Pot", 6 L2 "Low-end Terminal of Pot", 7 W2 "Wiper Terminal of Pot", 8 R/~{W}, A0 (in), 9 A2, ~{RST} (in), 10 GND (power) "Ground", 11 A1, DOUT (io), 12 SDA, DIN (io), 13 SCL, CLK (in), 14 W1 "Wiper Terminal of Pot", 15 L1 "Low-end Terminal of Pot", 16 L0 "Low-end Terminal of Pot", 17 W0 "Wiper Terminal of Pot", 18 H0 "High-end Terminal of Pot", 19 H1 "High-end Terminal of Pot", 20 VCC (power) "2.7V to 5.5V"

## DS1844E-100+
designator U?
Quad Digital Potentiometer with 2-Wire or 5-Wire Serial Control Interface, Volatile, Linear Taper, 64 Steps, -40 to 85 degC, 20-pin TSSOP (U20+1), Pb-Free; PartNumber: DS1844E-100+; DatasheetVersion: Rev. 2; PackageVersion: Rev. L, 07/2010; PackageReference: U20+1; PackageDescription: 20-Pin Thin Shrink Small-Outline Package (U20+1), Body 6.5 x4.4 mm, Pitch 0.65 mm; Supplier 1: Digi-Key; Supplier Part Number 1: DS1844E-100+-ND; Supplier 2: Mouser; Supplier Part Number 2: 700-DS1844E-100; Control Interface: 2-Wire or 5-Wire Serial; Mounting Technology: Surface Mount; Code_JEDEC: MO-153; ComponentLink1Description: Manufacturer URL; ComponentLink1URL: http://www.maximintegrated.com/; ComponentLink2Description: Datasheet; ComponentLink2URL: http://datasheets.maximintegrated.com/en/ds/DS1844.pdf; ComponentLink3Description: Package Specification; ComponentLink3URL: http://pdfserv.maximintegrated.com/package_dwgs/21-0066.PDF
footprint MAXM-U20+1_N (SOP, 20-Leads, Body 6.5x4.4mm, Pitch 0.65mm, IPC Medium Density)
footprint MAXM-U20+1_L (SOP, 20-Leads, Body 6.5x4.4mm, Pitch 0.65mm, IPC High Density)
footprint MAXM-U20+1_M (SOP, 20-Leads, Body 6.5x4.4mm, Pitch 0.65mm, IPC Low Density)
pins: 1 PS (in) "Port Select", 2 H2 "High-end Terminal of Pot", 3 H3 "High-end Terminal of Pot", 4 W3 "Wiper Terminal of Pot", 5 L3 "Low-end Terminal of Pot", 6 L2 "Low-end Terminal of Pot", 7 W2 "Wiper Terminal of Pot", 8 R/~{W}, A0 (in), 9 A2, ~{RST} (in), 10 GND (power) "Ground", 11 A1, DOUT (io), 12 SDA, DIN (io), 13 SCL, CLK (in), 14 W1 "Wiper Terminal of Pot", 15 L1 "Low-end Terminal of Pot", 16 L0 "Low-end Terminal of Pot", 17 W0 "Wiper Terminal of Pot", 18 H0 "High-end Terminal of Pot", 19 H1 "High-end Terminal of Pot", 20 VCC (power) "2.7V to 5.5V"

## DS1844E-100+T&R
designator U?
Quad Digital Potentiometer with 2-Wire or 5-Wire Serial Control Interface, Volatile, Linear Taper, 64 Steps, -40 to 85 degC, 20-pin TSSOP (U20+1), Pb-Free, Tape and Reel; PartNumber: DS1844E-100+T&R; DatasheetVersion: Rev. 2; PackageVersion: Rev. L, 07/2010; PackageReference: U20+1; PackageDescription: 20-Pin Thin Shrink Small-Outline Package (U20+1), Body 6.5 x4.4 mm, Pitch 0.65 mm; Supplier 1: Digi-Key; Supplier Part Number 1: DS1844E-100+T&R-ND; Supplier 2: Mouser; Supplier Part Number 2: 700-DS1844E-100T&R; Control Interface: 2-Wire or 5-Wire Serial; Mounting Technology: Surface Mount; Code_JEDEC: MO-153; ComponentLink1Description: Manufacturer URL; ComponentLink1URL: http://www.maximintegrated.com/; ComponentLink2Description: Datasheet; ComponentLink2URL: http://datasheets.maximintegrated.com/en/ds/DS1844.pdf; ComponentLink3Description: Package Specification; ComponentLink3URL: http://pdfserv.maximintegrated.com/package_dwgs/21-0066.PDF
footprint MAXM-U20+1_N (SOP, 20-Leads, Body 6.5x4.4mm, Pitch 0.65mm, IPC Medium Density)
footprint MAXM-U20+1_L (SOP, 20-Leads, Body 6.5x4.4mm, Pitch 0.65mm, IPC High Density)
footprint MAXM-U20+1_M (SOP, 20-Leads, Body 6.5x4.4mm, Pitch 0.65mm, IPC Low Density)
pins: 1 PS (in) "Port Select", 2 H2 "High-end Terminal of Pot", 3 H3 "High-end Terminal of Pot", 4 W3 "Wiper Terminal of Pot", 5 L3 "Low-end Terminal of Pot", 6 L2 "Low-end Terminal of Pot", 7 W2 "Wiper Terminal of Pot", 8 R/~{W}, A0 (in), 9 A2, ~{RST} (in), 10 GND (power) "Ground", 11 A1, DOUT (io), 12 SDA, DIN (io), 13 SCL, CLK (in), 14 W1 "Wiper Terminal of Pot", 15 L1 "Low-end Terminal of Pot", 16 L0 "Low-end Terminal of Pot", 17 W0 "Wiper Terminal of Pot", 18 H0 "High-end Terminal of Pot", 19 H1 "High-end Terminal of Pot", 20 VCC (power) "2.7V to 5.5V"

## DS1844E-100/T&R
designator U?
Quad Digital Potentiometer with 2-Wire or 5-Wire Serial Control Interface, Volatile, Linear Taper, 64 Steps, -40 to 85 degC, 20-pin TSSOP (U20-1), Tape and Reel; PartNumber: DS1844E-100/T&R; DatasheetVersion: Rev. 2; PackageVersion: Rev. L, 07/2010; PackageReference: U20-1; PackageDescription: 20-Pin Thin Shrink Small-Outline Package (U20-1), Body 6.5 x 4.4 mm, Pitch 0.65 mm; Supplier 1: Digi-Key; Supplier Part Number 1: DS1844E-100/T&R-ND; Supplier 2: Mouser; Supplier Part Number 2: N/A; Control Interface: 2-Wire or 5-Wire Serial; Mounting Technology: Surface Mount; Code_JEDEC: MO-153; ComponentLink1Description: Manufacturer URL; ComponentLink1URL: http://www.maximintegrated.com/; ComponentLink2Description: Datasheet; ComponentLink2URL: http://datasheets.maximintegrated.com/en/ds/DS1844.pdf; ComponentLink3Description: Package Specification; ComponentLink3URL: http://pdfserv.maximintegrated.com/package_dwgs/21-0066.PDF
footprint MAXM-U20-1_N (SOP, 20-Leads, Body 6.5x4.40mm, Pitch 0.65mm, IPC Medium Density)
footprint MAXM-U20-1_L (SOP, 20-Leads, Body 6.5x4.40mm, Pitch 0.65mm, IPC High Density)
footprint MAXM-U20-1_M (SOP, 20-Leads, Body 6.5x4.40mm, Pitch 0.65mm, IPC Low Density)
pins: 1 PS (in) "Port Select", 2 H2 "High-end Terminal of Pot", 3 H3 "High-end Terminal of Pot", 4 W3 "Wiper Terminal of Pot", 5 L3 "Low-end Terminal of Pot", 6 L2 "Low-end Terminal of Pot", 7 W2 "Wiper Terminal of Pot", 8 R/~{W}, A0 (in), 9 A2, ~{RST} (in), 10 GND (power) "Ground", 11 A1, DOUT (io), 12 SDA, DIN (io), 13 SCL, CLK (in), 14 W1 "Wiper Terminal of Pot", 15 L1 "Low-end Terminal of Pot", 16 L0 "Low-end Terminal of Pot", 17 W0 "Wiper Terminal of Pot", 18 H0 "High-end Terminal of Pot", 19 H1 "High-end Terminal of Pot", 20 VCC (power) "2.7V to 5.5V"